# EAGLE library part ADUM744X*RQZ-RL7 (library RoboJackets-ICs)
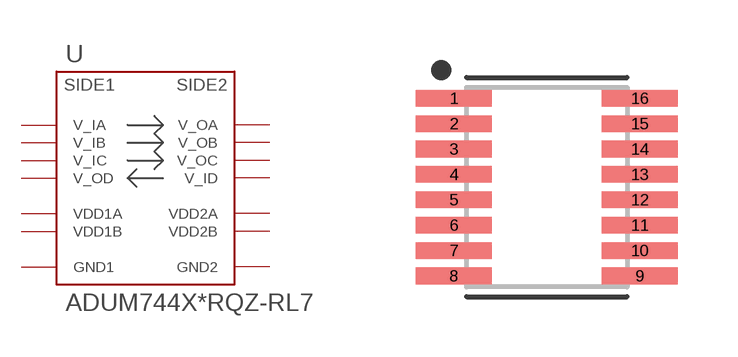
[diagram p24: symbol with the pads of SOP63P574X165-16; footprint SOP63P574X165-16]

Designator prefix U

## ADUM744XARQZ-RL7 (DATA_RATE: 1 Mbps; DIGIKEY_PN: ADUM7441ARQZ-RL7CT-ND; MANUFACTURER: ANALOG DEVICES), ADUM744XCRQZ-RL7 (DATA_RATE: 25 Mbps; DIGIKEY_PN: ADUM7441CRQZ-RL7CT-ND; MANUFACTURER: ANALOG DEVICES)  [SOP63P574X165-16]
1  VDD1A
2  GND1
3  V_IA
4  V_IB
5  V_IC
6  V_OD
7  VDD1B
8  GND1
9  GND2
10  VDD2B
11  V_ID
12  V_OC
13  V_OB
14  V_OA
15  GND2
16  VDD2A

## Footprint SOP63P574X165-16 (pad centres in mm)
16-SOP, 0.64 mm pitch, 5.74 mm span, 4.90 X 3.91 X 1.65 mm body 16-pin SOP package with 0.64 mm pitch, 5.74 mm span with body size 4.90 X 3.91 X 1.65 mm
smd 1.897 x 0.414: 1 -2.321,2.223; 2 -2.321,1.587; 3 -2.321,0.953; 4 -2.321,0.318; 5 -2.321,-0.318; 6 -2.321,-0.953; 7 -2.321,-1.587; 8 -2.321,-2.223; 9 2.321,-2.223; 10 2.321,-1.587; 11 2.321,-0.953; 12 2.321,-0.318; 13 2.321,0.318; 14 2.321,0.953; 15 2.321,1.587; 16 2.321,2.223